# EAGLE library part MICRF112 (library custom)
RF Transmitter IC 433.92MHz
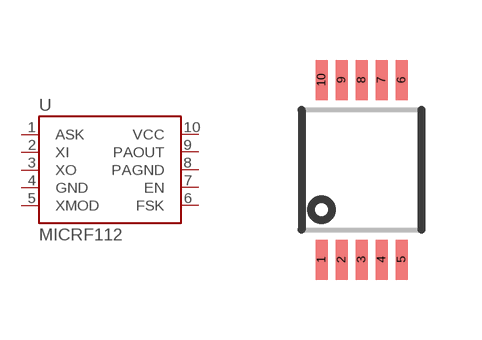
[diagram p35: symbol with the pads of 10-TSSOP; footprint 10-TSSOP]

Designator prefix U

## MICRF112  [10-TSSOP]
1  ASK
2  XI
3  XO
4  GND
5  XMOD
6  FSK
7  EN
8  PAGND
9  PAOUT
10  VCC

## Footprint 10-TSSOP (pad centres in mm)
smd 0.3 x 1: 1 -1,-2.25; 2 -0.5,-2.25; 3 0,-2.25; 4 0.5,-2.25; 5 1,-2.25; 6 1,2.25; 7 0.5,2.25; 8 0,2.25; 9 -0.5,2.25; 10 -1,2.25